# Altium footprint library RESRR500W80L1400T1000H4050.PcbLib: 1 footprints
Each footprint in its own frame and in the unit in brackets; x right, y up, seen from the top. Pads: shape width x height; smd on the part's side, far side on the other; paste and mask are expansions set on the pad; w line width, h text height; cw(c..) or ccw(c..) is an arc to the next point about the centre after c.
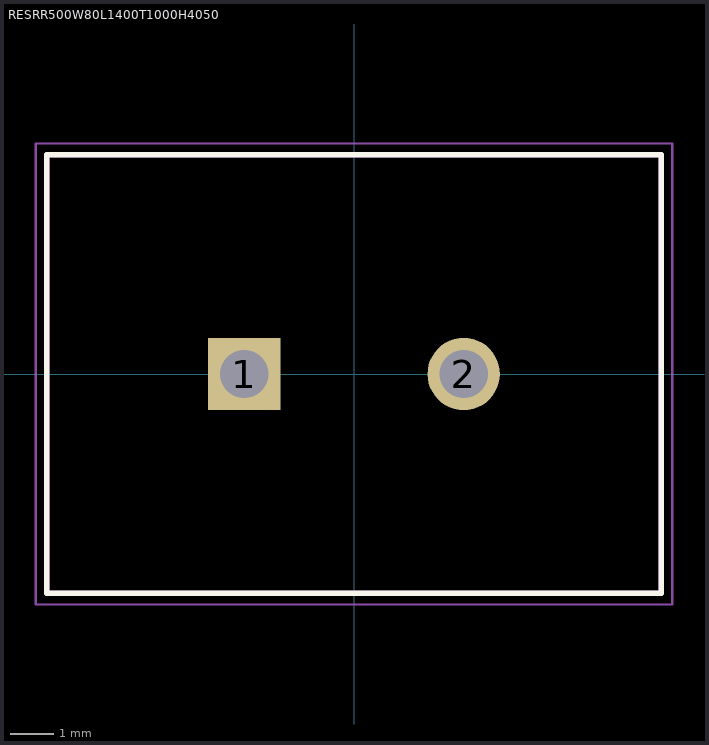
[diagram p0: the footprint, top view; thin cyan lines are the x and y axes]

## RESRR500W80L1400T1000H4050 [mm]
pads (2):
  rect 1.65x1.65 hole 1.1: 1(-2.5,0)
  round 1.65 hole 1.1: 2(2.5,0)
Top Overlay:
  lines w0.127: -7,-5 -7,5 7,5 7,-5 -7,-5
Mechanical 13:
  lines w0.127: -7,-5 -7,5 7,5 7,-5 -7,-5
Mechanical 15:
  lines w0.05: -7.25,-5.25 -7.25,5.25 7.25,5.25 7.25,-5.25 -7.25,-5.25